# Altium schematic symbol library Components - 25.02.24 - 15.24.SchLib: 1 symbol
Pins are listed as number, name and electrical type; pins without a type are passive.

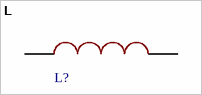
[diagram p0: symbol L]

## L
designator L?, comment LQW15AN4N3C00D  (value not drawn)
Wire Wound RF Inductor 4.3nH ±0.2nH 750mA 0.07Ω 0402 (1005); Core Material: Air; Shielding: Unshielded; Self Resonant Frequency: 10GHz; Test Frequency: 100MHz; DC Resistance (DCR): 70mR; Q Factor: 25; REACH SVHC: No SVHC; Min Operating Temperature: -55°C; Termination: SMD/SMT; Current Rating: 750mA; Weight: 2.8E-05oz; Inductance: 4.3nH; Number of Pins: 2; Mount: Surface Mount; Lead Free: Lead Free; Length: 1mm; Depth: 0.7mm; Radiation Hardening: No; Case/Package: 0402; Packaging: Tape and Reel; Military Standard: Not; Case Code (Imperial): 0402; Package Quantity: 10000; Case Code (Metric): 1005; Max DC Current: 750mA; Width: 0.02inch; Max Operating Temperature: 125°C; Height: 0.5mm; DC Current: 750mA
footprint IND: 0402
pins: 1, 2